# Altium footprint library UE27AE54100.PcbLib: 1 footprints
Each footprint in its own frame and in the unit in brackets; x right, y up, seen from the top. Pads: shape width x height; smd on the part's side, far side on the other; paste and mask are expansions set on the pad; w line width, h text height; cw(c..) or ccw(c..) is an arc to the next point about the centre after c.
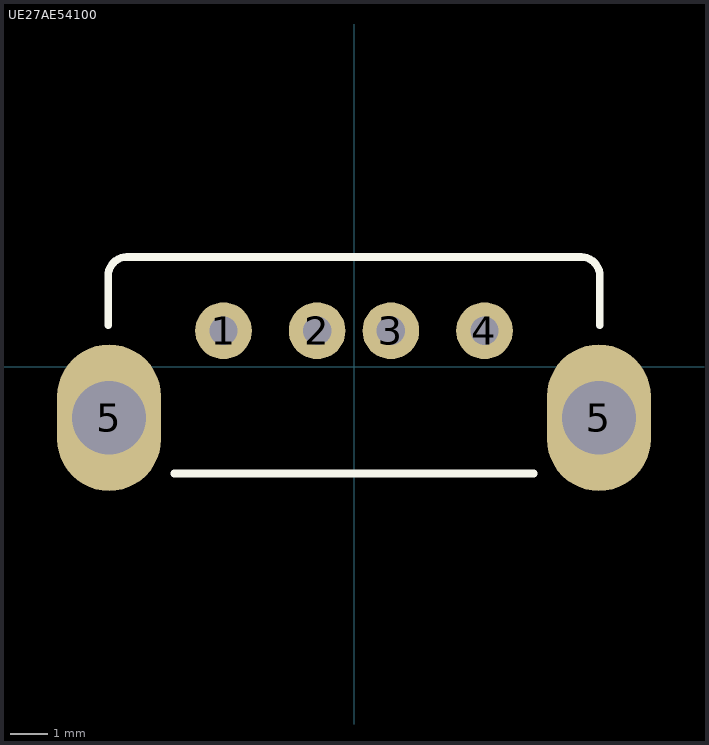
[diagram p0: the footprint, top view; thin cyan lines are the x and y axes]

## UE27AE54100 [mil]
pads (6):
  round 60 hole 30: 1(-138,38) 2(-39,38) 3(39,38) 4(138,38)
  oval 110x155 hole 78: 5(-259,-54) 5(259,-54)
Top Overlay:
  lines w8: -260,44 -260,96 cw(c-240.2,96.21) -240.2,116.01 ; -239,116 240,116 ; -190,-113 190,-113 ; 240.2,116.01 cw(c240.2,96.21) 260,96 260,44
3D body: height 573.92, standoff -147.74, extent -312.99,-140.31 312.99,140